# Altium footprint library misc.PcbLib: 21 footprints (part 1 of 2)
Each footprint in its own frame and in the unit in brackets; x right, y up, seen from the top. Pads: shape width x height; smd on the part's side, far side on the other; paste and mask are expansions set on the pad; w line width, h text height; cw(c..) or ccw(c..) is an arc to the next point about the centre after c.
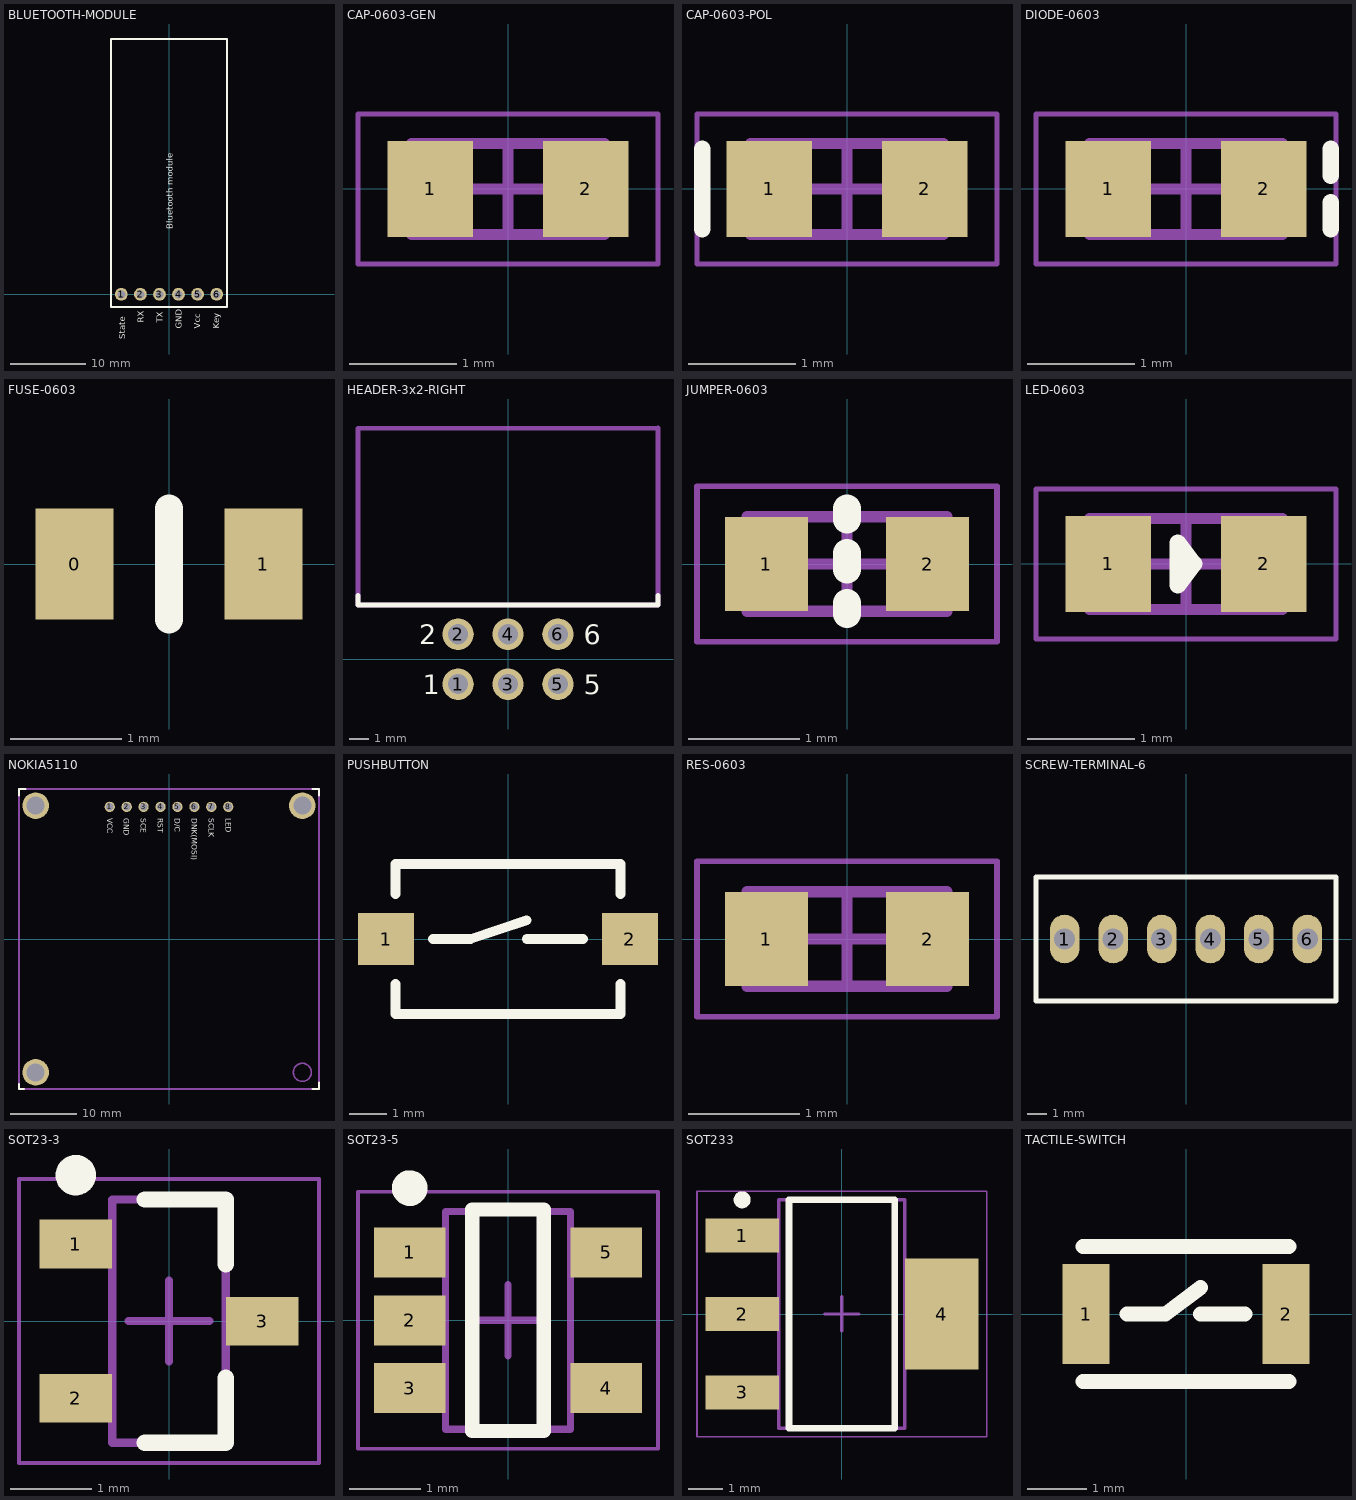
[diagram p0: the footprints below, top view; thin cyan lines are the x and y axes]

## BLUETOOTH-MODULE [mm] "Bluetooth serial module"
height 4
pads (6):
  round 1.7 hole 1.05: 1(-6.35,0) 2(-3.81,0) 3(-1.27,0) 4(1.27,0) 5(3.81,0) 6(6.35,0)
Top Overlay:
  lines w0.254: -7.75,-1.7 -7.75,34 7.75,34 7.75,-1.7 -7.75,-1.7
  text "Key" at 6.683,-4.597 h0.81
  text "Vcc" at 4.177,-4.597 h0.81
  text "GND" at 1.67,-4.597 h0.81
  text "TX" at -0.837,-3.784 h0.81
  text "RX" at -3.343,-3.784 h0.81
  text "State" at -5.85,-5.951 h0.81
  text "Bluetooth module" at 0.5,8.652 h0.81

## CAP-0603-GEN [mm] "Non-polarized 0603 (1608) chip capacitor"
height 0.7
pads (2):
  rect 0.8x0.9 smd: 1(-0.725,0) 2(0.725,0)
Mechanical 13:
  lines w0.1: -0.9,-0.425 -0.9,0.425 0.9,0.425 0.9,-0.425 -0.9,-0.425
Mechanical 15:
  lines w0.05: -1.4,-0.7 -1.4,0.7 1.4,0.7 1.4,-0.7 -1.4,-0.7
  lines w0.1: -0.425,0 0.425,0 ; 0,-0.425 0,0.425
3D body: height 0.7, standoff 0, extent -0.45,-0.425 0.45,0.425
3D body: height 0.7, standoff 0, extent -0.9,-0.425 -0.45,0.425
3D body: height 0.7, standoff 0, extent 0.45,-0.425 0.9,0.425

## CAP-0603-POL [mm] "0603 (1608) polarized chip capacitor"
height 0.7
pads (2):
  rect 0.8x0.9 smd: 1(-0.725,0) 2(0.725,0)
Top Overlay:
  lines w0.154: -1.35,-0.375 -1.35,0.375
Mechanical 13:
  lines w0.1: -0.9,-0.425 0.9,-0.425 0.9,0.425 -0.9,0.425 -0.9,-0.425
Mechanical 15:
  lines w0.05: -1.4,-0.7 1.4,-0.7 1.4,0.7 -1.4,0.7 -1.4,-0.7
  lines w0.1: -0.425,0 0.425,0 ; 0,-0.425 0,0.425
3D body: height 0.7, standoff 0, extent 0.45,-0.425 0.9,0.425
3D body: height 0.7, standoff 0, extent -0.9,-0.425 -0.45,0.425
3D body: height 0.7, standoff 0, extent -0.45,-0.425 0.45,0.425

## DIODE-0603 [mm] "0603 (1608) Diode"
height 0.7
pads (2):
  rect 0.8x0.9 smd: 1(-0.725,0) 2(0.725,0)
Top Overlay:
  lines w0.154: 1.35,-0.375 1.35,-0.125 ; 1.35,0.125 1.35,0.375
Mechanical 13:
  lines w0.1: -0.9,-0.425 -0.9,0.425 0.9,0.425 0.9,-0.425 -0.9,-0.425
Mechanical 15:
  lines w0.05: -1.4,-0.7 -1.4,0.7 1.4,0.7 1.4,-0.7 -1.4,-0.7
  lines w0.1: -0.425,0 0.425,0 ; 0,-0.425 0,0.425
3D body: height 0.7, standoff 0, extent -0.45,-0.425 0.45,0.425
3D body: height 0.7, standoff 0, extent -0.9,-0.425 -0.45,0.425
3D body: height 0.7, standoff 0, extent 0.45,-0.425 0.9,0.425

## FUSE-0603 [mm] "0603 (1608) resettable fuse"
height 1
pads (2):
  rect 0.7x1 smd: 0(-0.85,0) 1(0.85,0)
Top Overlay:
  lines w0.254: 0,-0.5 0,0.5

## HEADER-3x2-RIGHT [mm] "AMPHENOL  T821106A1R100CEU"
height 8.8
pads (6):
  round 1.6 hole 1.02: 1(-2.54,-1.27) 2(-2.54,1.27) 3(0,-1.27) 4(0,1.27) 5(2.54,-1.27) 6(2.54,1.27)
Top Overlay:
  lines w0.254: -7.62,3.25 -7.62,2.75 7.62,2.75 7.62,3.25
  text "1" at -4.333,-1.77 h1
  text "2" at -4.5,0.77 h1
  text "5" at 3.85,-1.77 h1
  text "6" at 3.85,0.77 h1
Mechanical 13:
  lines w0.254: -7.625,2.75 7.625,2.75 7.625,11.75 -7.625,11.725 -7.625,2.75

## JUMPER-0603 [mm] "0604 (1608) resistor based jumper"
height 1
pads (2):
  rect 0.75x0.85 smd: 1(-0.725,0) 2(0.725,0)
Top Overlay:
  lines w0.254: 0,-0.45 0,-0.35 ; 0,-0.05 0,0.1 ; 0,0.4 0,0.5
Mechanical 13:
  lines w0.1: -0.9,-0.425 0.9,-0.425 0.9,0.425 -0.9,0.425 -0.9,-0.425
Mechanical 15:
  lines w0.05: -1.35,-0.7 1.35,-0.7 1.35,0.7 -1.35,0.7 -1.35,-0.7
  lines w0.1: -0.425,0 0.425,0 ; 0,-0.425 0,0.425
3D body: height 0.7, standoff 0, extent 0.45,-0.425 0.9,0.425
3D body: height 0.7, standoff 0, extent -0.9,-0.425 -0.45,0.425
3D body: height 0.7, standoff 0, extent -0.45,-0.425 0.45,0.425

## LED-0603 [mm] "0603 (1608) LED"
height 1
pads (2):
  rect 0.8x0.9 smd: 1(-0.725,0) 2(0.725,0)
Top Overlay:
  lines w0.154: -0.075,-0.2 -0.075,0.2 0.075,0 -0.075,-0.2
Mechanical 13:
  lines w0.1: -0.9,-0.425 0.9,-0.425 0.9,0.425 -0.9,0.425 -0.9,-0.425
Mechanical 15:
  lines w0.05: -1.4,-0.7 1.4,-0.7 1.4,0.7 -1.4,0.7 -1.4,-0.7
  lines w0.1: -0.425,0 0.425,0 ; 0,-0.425 0,0.425
3D body: height 0.7, standoff 0, extent 0.45,-0.425 0.9,0.425
3D body: height 0.7, standoff 0, extent -0.9,-0.425 -0.45,0.425
3D body: height 0.7, standoff 0, extent -0.45,-0.425 0.45,0.425

## NOKIA5110 [mm] "Nokia 5110 LCD screen"
height 7.3
pads (11):
  round 1.54 hole 1.1: 1(-8.89,19.82) 2(-6.35,19.82) 3(-3.81,19.82) 4(-1.27,19.82) 5(1.27,19.82) 6(3.81,19.82) 7(6.35,19.82) 8(8.89,19.83)
  round 4 hole 2.7: ""(-20,-20) ""(-20,20) ""(20,20)
Top Overlay:
  lines w0.254: -22.5,-21.75 -22.5,-22.5 -21.75,-22.5 ; -22.5,21.5 -22.5,22.5 -21.5,22.5 ; 21.5,-22.5 22.5,-22.5 22.5,-21.5 ; 21.5,22.5 22.5,22.5 22.5,21.5
  text "VCC" at -9.296,18.15 h0.81
  text "GND" at -6.756,18.15 h0.81
  text "SCE" at -4.216,18.15 h0.81
  text "RST" at -1.676,18.15 h0.81
  text "D/C" at 0.864,18.15 h0.81
  text "DNK(MOSI)" at 3.404,18.15 h0.81
  text "SCLK" at 5.944,18.15 h0.81
  text "LED" at 8.484,18.15 h0.81
Mechanical 13:
  circle w0.254: c-20,20 r1.35
  circle w0.254: c20,20 r1.35
  circle w0.254: c-20,-20 r1.35
  circle w0.254: c20,-20 r1.35
  lines w0.254: -22.5,-22.5 22.5,-22.5 22.5,22.5 -22.5,22.5 -22.5,-22.5

## PUSHBUTTON [mm] "Mini temporary pushbutton"
height 2.5
pads (2):
  rect 1.5x1.4 smd: 1(-3.25,0) 2(3.25,0)
Top Overlay:
  lines w0.254: -3,-1.2 -3,-2 3,-2 3,-1.2 ; -3,1.2 -3,2 3,2 3,1.2 ; -2,0 -1,0 0.5,0.5 ; 0.5,0 2,0

## RES-0603 [mm] "0603 (1608) chip resistor"
height 0.7
pads (2):
  rect 0.75x0.85 smd: 1(-0.725,0) 2(0.725,0)
Mechanical 13:
  lines w0.1: -0.9,-0.425 -0.9,0.425 0.9,0.425 0.9,-0.425 -0.9,-0.425
Mechanical 15:
  lines w0.05: -1.35,-0.7 -1.35,0.7 1.35,0.7 1.35,-0.7 -1.35,-0.7
  lines w0.1: -0.425,0 0.425,0 ; 0,-0.425 0,0.425
3D body: height 0.7, standoff 0, extent -0.45,-0.425 0.45,0.425
3D body: height 0.7, standoff 0, extent -0.9,-0.425 -0.45,0.425
3D body: height 0.7, standoff 0, extent 0.45,-0.425 0.9,0.425

## SCREW-TERMINAL-6 [mm] "6-terminal screw 2.54mm pitch"
height 10
pads (6):
  oval 1.54x2.54 hole 1.1: 1(-6.35,0) 2(-3.81,0) 3(-1.27,0) 4(1.27,0) 5(3.81,0) 6(6.35,0)
Top Overlay:
  lines w0.254: -7.85,-3.25 0,-3.25 7.85,-3.25 7.85,3.25 0,3.25 -7.85,3.25 -7.85,-3.25

## SOT23-3 [mm] "SOT23 3-leads mosfet"
height 1.1
pads (3):
  rect 0.9x0.6 smd: 1(-1.15,0.95) 2(-1.15,-0.95) 3(1.15,0)
Top Overlay:
  circle w0.25: c-1.15,1.8 r0.125
  lines w0.2: -0.3,-1.5 0.7,-1.5 0.7,-0.7 ; -0.3,1.5 0.7,1.5 0.7,0.7
Mechanical 13:
  lines w0.1: -0.7,-1.5 0.7,-1.5 0.7,1.5 -0.7,1.5 -0.7,-1.5
Mechanical 15:
  lines w0.05: -1.85,-1.75 1.85,-1.75 1.85,1.75 -1.85,1.75 -1.85,-1.75
  lines w0.1: -0.5,0 0.5,0 ; 0,-0.5 0,0.5
3D body: height 1.1, standoff 0.05, extent -0.7,-1.5 0.7,1.5

## SOT23-5 [mm] "SOT23 5-Leads"
height 1.45
pads (5):
  rect 1x0.7 smd: 1(-1.375,0.95) 2(-1.375,0) 3(-1.375,-0.95) 4(1.375,-0.95) 5(1.375,0.95)
Top Overlay:
  circle w0.25: c-1.375,1.85 r0.125
  lines w0.2: -0.5,-1.55 -0.5,1.55 0.5,1.55 0.5,-1.55 -0.5,-1.55
Mechanical 13:
  lines w0.1: -0.875,-1.525 0.875,-1.525 0.875,1.525 -0.875,1.525 -0.875,-1.525
Mechanical 15:
  lines w0.05: -2.1,-1.8 2.1,-1.8 2.1,1.8 -2.1,1.8 -2.1,-1.8
  lines w0.1: -0.5,0 0.5,0 ; 0,-0.5 0,0.5
3D body: height 1.45, standoff 0.05, extent -0.875,-1.525 0.875,1.525

## SOT233 [mm] "SOT223 4-Leads"
height 1.8
pads (4):
  rect 2.15x1 smd: 1(-2.925,2.3) 2(-2.925,0) 3(-2.925,-2.3)
  rect 2.15x3.25 smd: 4(2.925,0)
Top Overlay:
  circle w0.25: c-2.925,3.35 r0.125
  lines w0.2: -1.55,-3.35 1.55,-3.35 1.55,3.35 -1.55,3.35 -1.55,-3.35
Mechanical 13:
  lines w0.1: -1.85,-3.35 1.85,-3.35 1.85,3.35 -1.85,3.35 -1.85,-3.35
Mechanical 15:
  lines w0.05: -4.25,-3.6 4.25,-3.6 4.25,3.6 -4.25,3.6 -4.25,-3.6
  lines w0.1: -0.5,0 0.5,0 ; 0,-0.5 0,0.5
3D body: height 1.8, standoff 0.02, extent -1.85,-3.35 1.85,3.35

## TACTILE-SWITCH [mm] "Tactile switch"
height 1.6
pads (2):
  rect 0.8x1.7 smd: 1(-1.7,0) 2(1.7,0)
Top Overlay:
  lines w0.254: -1.75,-1.15 1.75,-1.15 ; -1.75,1.15 1.75,1.15 ; -1,0 -0.35,0 0.25,0.45 ; 0.25,0 1,0